# Altium schematic symbol library Displays.SchLib: 1 symbol
Pins are listed as number, name and electrical type; pins without a type are passive.

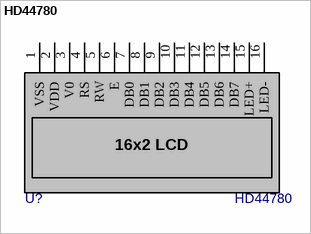
[diagram p0: symbol HD44780]

## HD44780
designator U?
LC Display; Created: 2014-09-04; Last Updated: 2014-09-04
footprint CG046-3007-W-G-LED04-YG (TRI-T Company Ltd.)
pins: 1 VSS (power), 2 VDD (power), 3 V0, 4 RS, 5 RW, 6 E, 7 DB0, 8 DB1, 9 DB2, 10 DB3, 11 DB4, 12 DB5, 13 DB6, 14 DB7, 15 LED+ (power), 16 LED- (power)
text: 16x2 LCD